# EAGLE library part SD_BREAKOUT (library SD_Breakout)
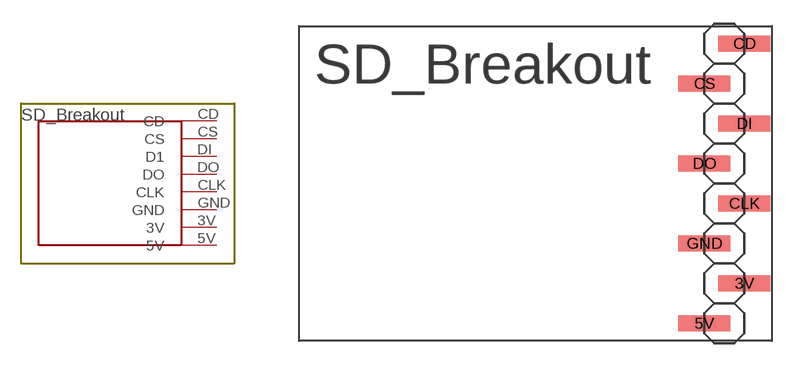
[diagram p1: symbol with the pads of 1X08SMD; footprint 1X08SMD]

Designator prefix -

## SD_BREAKOUT  [1X08SMD]
3V  3V
5V  5V
CD  CD
CLK  CLK
CS  CS
DI  D1
DO  DO
GND  GND

## Footprint 1X08SMD (pad centres in mm)
PIN HEADER - 2.54 SMD
smd 3.302 x 1.016: 3V 13.97,-6.35; 5V 11.43,-8.89; CD 13.97,8.89; CLK 13.97,-1.27; CS 11.43,6.35; DI 13.97,3.81; DO 11.43,1.27; GND 11.43,-3.81